# Altium footprint library РЕЗИСТОРЫ.PcbLib: 4 footprints
Each footprint in its own frame and in the unit in brackets; x right, y up, seen from the top. Pads: shape width x height; smd on the part's side, far side on the other; paste and mask are expansions set on the pad; w line width, h text height; cw(c..) or ccw(c..) is an arc to the next point about the centre after c.
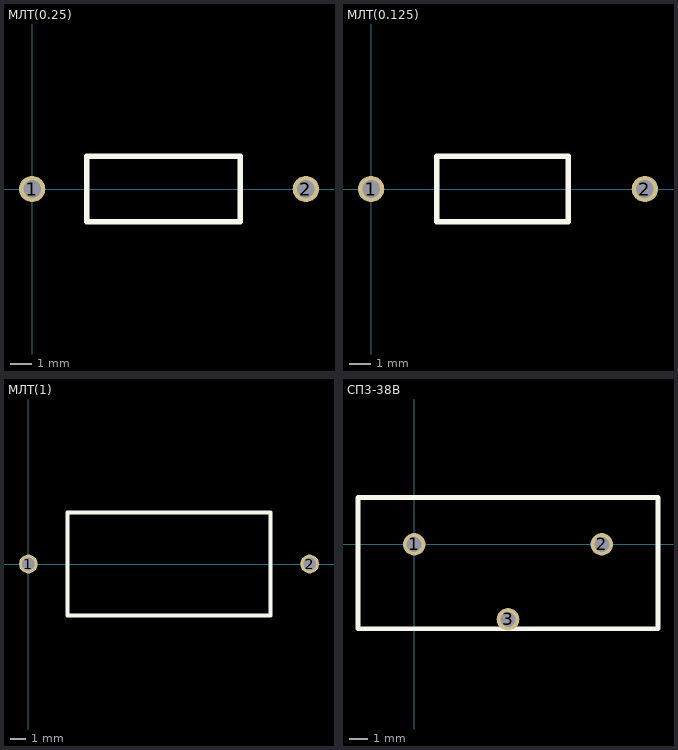
[diagram p0: the footprints below, top view; thin cyan lines are the x and y axes]

## МЛТ(0.25) [mm]
pads (2):
  round 1.2 hole 0.8: 1(0,0) 2(12.5,0)
Top Overlay:
  lines w0.254: 2.5,-1.5 9.5,-1.5 9.5,1.5 2.5,1.5 2.5,-1.5

## МЛТ(0.125) [mm]
pads (2):
  round 1.2 hole 0.8: 1(0,0) 2(12.5,0)
Top Overlay:
  lines w0.254: 3,-1.5 9,-1.5 9,1.5 3,1.5 3,-1.5

## МЛТ(1) [mm]
pads (2):
  round 1.2 hole 0.8: 1(0,0) 2(18,0)
Top Overlay:
  lines w0.254: 2.5,-3.3 15.5,-3.3 15.5,3.3 2.5,3.3 2.5,-3.3

## СП3-38В [mm]
pads (3):
  round 1.2 hole 0.8: 1(0,0) 2(10,0) 3(5,-4)
Top Overlay:
  lines w0.254: -3,-4.5 13,-4.5 13,2.5 -3,2.5 -3,-4.5